# Altium integrated library ST Video Sync Circuit.IntLib: 2 symbols
Pins are listed as number, name and electrical type; pins without a type are passive.

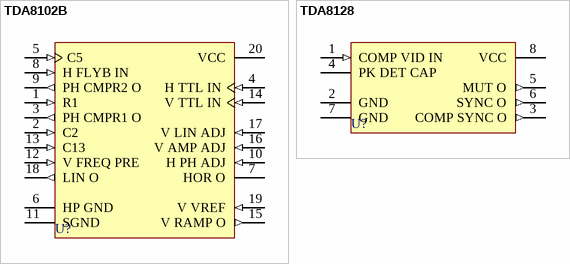
[diagram p0: symbols TDA8102B to TDA8128]

## TDA8102B
designator U?
H/V Processor for TTL V.D.U; Published: 24-Aug-2001; LatestRevisionDate: 6-Jun-2005; LatestRevisionNote: Stylized 3D Model Added.; DatasheetDocument: Dec-1992; PackageDocument: Jun-1998; PackageReference: DIP20; Publisher: Altium Limited; Code_JEDEC: MS-015-AE; ComponentLink1Description: Manufacturer Link; ComponentLink1URL: http://www.st.com/
footprint DIP20 (DIP; 20 Leads; Row Spacing 7.62 mm; Pitch 2.54 mm)
3D model DIP20 (DIP; 20 Leads; Row Spacing 7.62 mm; Pitch 2.54 mm)
pins: 1 R1 (in), 2 C2 (in), 3 PH CMPR1 O (out), 4 H TTL IN (in), 5 C5 (in), 6 HP GND (power), 7 HOR O (oc), 8 H FLYB IN (in), 9 PH CMPR2 O (out), 10 H PH ADJ (in), 11 SGND (power), 12 V FREQ PRE (in), 13 C13 (in), 14 V TTL IN (in), 15 V RAMP O (out), 16 V AMP ADJ (in), 17 V LIN ADJ (in), 18 LIN O (out), 19 V VREF (in), 20 VCC (power)

## TDA8128
designator U?
Sync Separator and Video Signal Identification; Published: 24-Aug-2001; LatestRevisionDate: 6-Jun-2005; LatestRevisionNote: Stylized 3D Model Added.; DatasheetDocument: Sep-1993; PackageReference: DIP8; Publisher: Altium Limited; Code_JEDEC: MO-001-AN; ComponentLink1Description: Manufacturer Link; ComponentLink1URL: http://www.st.com/
footprint DIP8 (DIP; 8 Leads; Row Spacing 7.62 mm; Pitch 2.54 mm)
3D model DIP8 (DIP; 8 Leads; Row Spacing 7.62 mm; Pitch 2.54 mm)
pins: 1 COMP VID IN (in), 2 GND (power), 3 COMP SYNC O (out), 4 PK DET CAP, 5 MUT O (out), 6 SYNC O (out), 7 GND (power), 8 VCC (power)